# Altium schematic symbol library 常用小元件原理图库.SchLib: 40 symbols
Pins are listed as number, name and electrical type; pins without a type are passive.

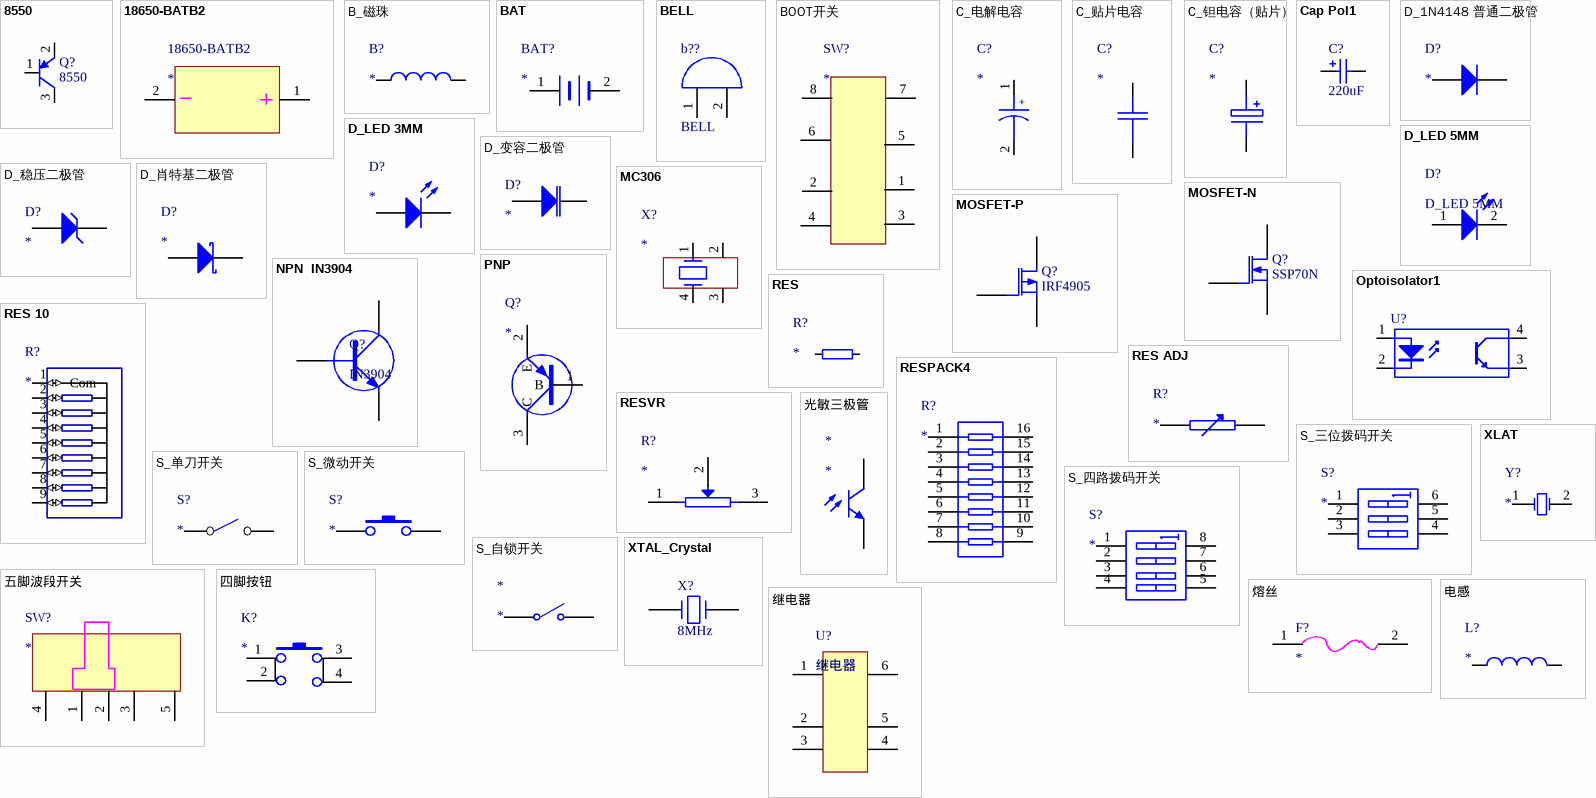
[diagram p0: symbols 8550 to 继电器]

## 8550
designator Q?
footprint SOT-23
pins: 1 B, 2 E, 3 C
2 alternate drawings of the same symbol

## 18650-BATB2
designator 18650-BATB2
pins: 1, 2

## B_磁珠
designator B?
footprint B_磁珠
pins: 1, 2

## BAT
designator BAT?
footprint BAT
footprint BAT15*4
pins: 1 +, 2 -

## BELL
designator b??
footprint bell
pins: 1, 2

## BOOT开关
designator SW?
footprint BOOT开关_FIRE
pins: 1, 2, 3, 4, 5, 6, 7, 8

## C_电解电容
designator C?
footprint C_680uF_电解电容
footprint CAPPR2-5x6.8 (Capacitor, Ceramic, Thru-Hole, Dipped Radial; Body 5.1 x 3.2 mm (WxT) Pin Spacing 2.54 mm (typ))
footprint C_220uF铝电容
pins: 1, 2
text: +

## C_贴片电容
designator C?
footprint 0805
footprint 0603P
pins: 1, 2

## C_钽电容（贴片）
designator C?
footprint C1206A
pins: 1, 2

## Cap Pol1
designator C?, comment 220uF
Polarized Capacitor (Radial); Value: 10uF; Published: 8-Jun-2000; Revision: July-2002: Re-released for DXP Platform.; Publisher: Altium Limited
simulation model CAP (Capacitor)
signal-integrity model C200M
footprint 3528
pins: 1, 2

## D_1N4148 普通二极管
designator D?
footprint DIO7.1-3.9x1.9 (Axial; Body 3.8 x 1.9 mm (LxDia. max), Lead Dia. 0.53 mm (max))
pins: 1 A, 2 K

## D_LED 3MM
designator D?
footprint LED 3MM
pins: 1 A, 2 K

## D_LED 5MM
designator D?
footprint LED 5MM (学校)
footprint 0805_LED
pins: 1 A, 2 K

## D_变容二极管
designator D?
Variable Capacitance Diode
pins: 1 K, 3 A

## D_稳压二极管
designator D?
Zener Diode
pins: 1 A, 2 K

## D_肖特基二极管
designator D?
Schottky Diode
footprint SMB / DO-214AA
pins: 1 A, 2 K

## MC306
designator X?
footprint SM8
pins: 1, 2, 3, 4

## MOSFET-N
designator Q?, comment SSP70N
N-Channel MOSFET; PackageDocument: 1995/1996; Published: 8-Jun-2000; LatestRevisionDate: 17-Jul-2002; LatestRevisionNote: Re-released for DXP Platform.; PackageReference: E3; Publisher: Altium Limited
footprint E3 (TO, Flat Index; 3 In-Line, Axial Leads; Body Dia. 4.6mm; Lead Dia. 0.5 mm (max))
simulation model NMOS (MOSFET-N)
pins: 1 D, 2 G, 3 S

## MOSFET-P
designator Q?, comment IRF4905
P-Channel MOSFET; PackageDocument: 1995/1996; Published: 8-Jun-2000; LatestRevisionDate: 17-Jul-2002; LatestRevisionNote: Re-released for DXP Platform.; PackageReference: E3; Publisher: Altium Limited
footprint E3 (TO, Flat Index; 3 In-Line, Axial Leads; Body Dia. 4.6mm; Lead Dia. 0.5 mm (max))
simulation model PMOS (MOSFET-P)
pins: 1 D, 2 G, 3 S

## NPN  IN3904
designator Q?, comment IN3904
pins: 1 C, 2 B, 3 E

## Optoisolator1
designator U?
4-Pin Phototransistor Optocoupler; Published: 24-Mar-1999; LatestRevisionDate: 04-Mar-2005; LatestRevisionNote: Sch pins 3 & 4 Swapped.; DatasheetDocument: Nov-2003; PackageReference: DIP-4; Publisher: Altium Limited
footprint DIP-4 (DIP; 4 Leads; Row Spacing 7.62 mm; Pitch 2.54 mm)
pins: 1 A "Anode", 2 K "Cathode", 3 E "Emitter", 4 C "Collector"

## PNP
designator Q?
footprint SOT-23
pins: 1 B, 2 E, 3 C

## RES
designator R?
footprint AXIAL-0.3
footprint 0603 (Chip Inductor, 2-Leads, Body 1.6x0.8mm, IPC Medium Density)
footprint 0805
pins: 1, 2

## RES 10
designator R?
pins: 1 Com (io), 2 (io), 3 (io), 4 (io), 5 (io), 6 (io), 7 (io), 8 (io), 9 (io)

## RES ADJ
designator R?
pins: 1, 2

## RESPACK4
designator R?
pins: 1, 2, 3, 4, 5, 6, 7, 8, 9, 10, 11, 12, 13, 14, 15, 16

## RESVR
designator R?
footprint R_W103电位器
pins: 1 2, 2 W, 3

## S_三位拨码开关
designator S?
pins: 1 A1, 2 A2, 3 A3, 4 B3, 5 B2, 6 B1

## S_单刀开关
designator S?
footprint S_单刀开关
pins: 1, 2

## S_四路拨码开关
designator S?
pins: 1 A1, 2 A2, 3 A3, 4 A4, 5 B4, 6 B3, 7 B2, 8 B1

## S_微动开关
designator S?
footprint S_微动开关
pins: 1, 2

## S_自锁开关
designator *
pins: 1 COMMON, 2 NO

## XLAT
designator Y?
footprint XTAL
pins: 1, 2

## XTAL_Crystal
designator X?, comment 8MHz
Crystal
footprint XTAL_16S
pins: 1, 2
2 alternate drawings of the same symbol

## 五脚波段开关
designator SW?
footprint 5脚波段开关
pins: 1 0, 2 1, 3 2, 4 3, 5 4

## 光敏三极管
designator *
footprint LED 5MM (学校); pin to pad 1>2 3>1
pins: 1 E, 3 C

## 四脚按钮
designator K?
pins: 1, 2, 3, 4

## 熔丝
designator F?
500mA自恢复保险
footprint 500mA自恢复保险 (T050(500mA自恢复保险))
pins: 1 0, 2 1

## 电感
designator L?
footprint 工字电感
pins: 1, 2

## 继电器
designator U?
footprint 继电器_小号
pins: 1, 2, 3, 4, 5, 6